# EAGLE library part EFM32LG380F64 (library EnergyMicro)
EFM32LG380F64 Leopard Microcontroller in 14mm x 14mm QFP100 package
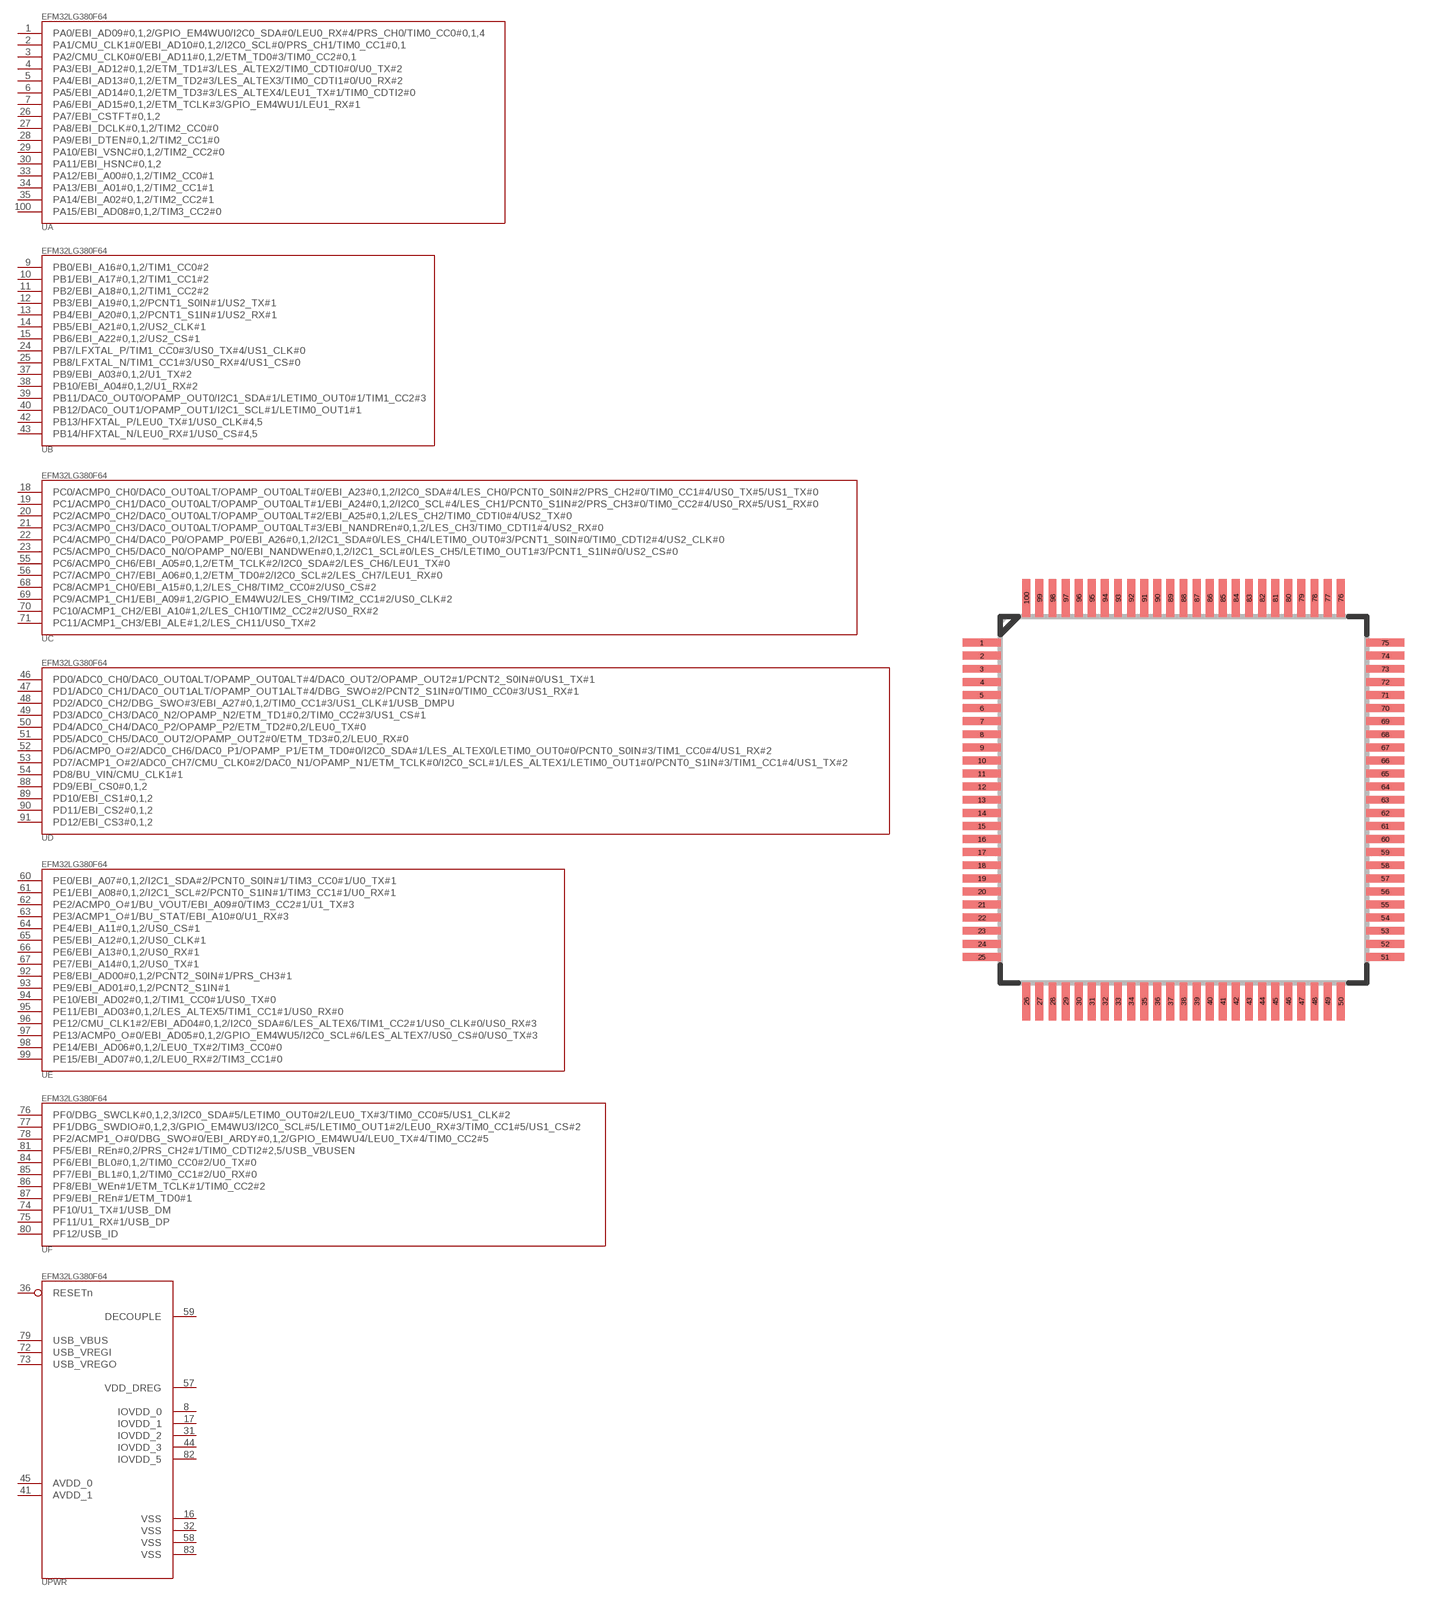
[diagram p86: symbol with the pads of QFP100; footprint QFP100]

Designator prefix -; gates A=EFM32LG380F64_A B=EFM32LG380F64_B C=EFM32LG380F64_C D=EFM32LG380F64_D E=EFM32LG380F64_E F=EFM32LG380F64_F PWR=EFM32LG380F64_PWR

## EFM32LG380F64  [QFP100]
1  A:PA0/EBI_AD09#0,1,2/GPIO_EM4WU0/I2C0_SDA#0/LEU0_RX#4/PRS_CH0/TIM0_CC0#0,1,4
2  A:PA1/CMU_CLK1#0/EBI_AD10#0,1,2/I2C0_SCL#0/PRS_CH1/TIM0_CC1#0,1
3  A:PA2/CMU_CLK0#0/EBI_AD11#0,1,2/ETM_TD0#3/TIM0_CC2#0,1
4  A:PA3/EBI_AD12#0,1,2/ETM_TD1#3/LES_ALTEX2/TIM0_CDTI0#0/U0_TX#2
5  A:PA4/EBI_AD13#0,1,2/ETM_TD2#3/LES_ALTEX3/TIM0_CDTI1#0/U0_RX#2
6  A:PA5/EBI_AD14#0,1,2/ETM_TD3#3/LES_ALTEX4/LEU1_TX#1/TIM0_CDTI2#0
7  A:PA6/EBI_AD15#0,1,2/ETM_TCLK#3/GPIO_EM4WU1/LEU1_RX#1
8  PWR:IOVDD_0  pwr
9  B:PB0/EBI_A16#0,1,2/TIM1_CC0#2
10  B:PB1/EBI_A17#0,1,2/TIM1_CC1#2
11  B:PB2/EBI_A18#0,1,2/TIM1_CC2#2
12  B:PB3/EBI_A19#0,1,2/PCNT1_S0IN#1/US2_TX#1
13  B:PB4/EBI_A20#0,1,2/PCNT1_S1IN#1/US2_RX#1
14  B:PB5/EBI_A21#0,1,2/US2_CLK#1
15  B:PB6/EBI_A22#0,1,2/US2_CS#1
16  PWR:VSS  pwr
17  PWR:IOVDD_1  pwr
18  C:PC0/ACMP0_CH0/DAC0_OUT0ALT/OPAMP_OUT0ALT#0/EBI_A23#0,1,2/I2C0_SDA#4/LES_CH0/PCNT0_S0IN#2/PRS_CH2#0/TIM0_CC1#4/US0_TX#5/US1_TX#0
19  C:PC1/ACMP0_CH1/DAC0_OUT0ALT/OPAMP_OUT0ALT#1/EBI_A24#0,1,2/I2C0_SCL#4/LES_CH1/PCNT0_S1IN#2/PRS_CH3#0/TIM0_CC2#4/US0_RX#5/US1_RX#0
20  C:PC2/ACMP0_CH2/DAC0_OUT0ALT/OPAMP_OUT0ALT#2/EBI_A25#0,1,2/LES_CH2/TIM0_CDTI0#4/US2_TX#0
21  C:PC3/ACMP0_CH3/DAC0_OUT0ALT/OPAMP_OUT0ALT#3/EBI_NANDREn#0,1,2/LES_CH3/TIM0_CDTI1#4/US2_RX#0
22  C:PC4/ACMP0_CH4/DAC0_P0/OPAMP_P0/EBI_A26#0,1,2/I2C1_SDA#0/LES_CH4/LETIM0_OUT0#3/PCNT1_S0IN#0/TIM0_CDTI2#4/US2_CLK#0
23  C:PC5/ACMP0_CH5/DAC0_N0/OPAMP_N0/EBI_NANDWEn#0,1,2/I2C1_SCL#0/LES_CH5/LETIM0_OUT1#3/PCNT1_S1IN#0/US2_CS#0
24  B:PB7/LFXTAL_P/TIM1_CC0#3/US0_TX#4/US1_CLK#0
25  B:PB8/LFXTAL_N/TIM1_CC1#3/US0_RX#4/US1_CS#0
26  A:PA7/EBI_CSTFT#0,1,2
27  A:PA8/EBI_DCLK#0,1,2/TIM2_CC0#0
28  A:PA9/EBI_DTEN#0,1,2/TIM2_CC1#0
29  A:PA10/EBI_VSNC#0,1,2/TIM2_CC2#0
30  A:PA11/EBI_HSNC#0,1,2
31  PWR:IOVDD_2  pwr
32  PWR:VSS  pwr
33  A:PA12/EBI_A00#0,1,2/TIM2_CC0#1
34  A:PA13/EBI_A01#0,1,2/TIM2_CC1#1
35  A:PA14/EBI_A02#0,1,2/TIM2_CC2#1
36  PWR:RESETn  pas
37  B:PB9/EBI_A03#0,1,2/U1_TX#2
38  B:PB10/EBI_A04#0,1,2/U1_RX#2
39  B:PB11/DAC0_OUT0/OPAMP_OUT0/I2C1_SDA#1/LETIM0_OUT0#1/TIM1_CC2#3
40  B:PB12/DAC0_OUT1/OPAMP_OUT1/I2C1_SCL#1/LETIM0_OUT1#1
41  PWR:AVDD_1  pwr
42  B:PB13/HFXTAL_P/LEU0_TX#1/US0_CLK#4,5
43  B:PB14/HFXTAL_N/LEU0_RX#1/US0_CS#4,5
44  PWR:IOVDD_3  pwr
45  PWR:AVDD_0  pwr
46  D:PD0/ADC0_CH0/DAC0_OUT0ALT/OPAMP_OUT0ALT#4/DAC0_OUT2/OPAMP_OUT2#1/PCNT2_S0IN#0/US1_TX#1
47  D:PD1/ADC0_CH1/DAC0_OUT1ALT/OPAMP_OUT1ALT#4/DBG_SWO#2/PCNT2_S1IN#0/TIM0_CC0#3/US1_RX#1
48  D:PD2/ADC0_CH2/DBG_SWO#3/EBI_A27#0,1,2/TIM0_CC1#3/US1_CLK#1/USB_DMPU
49  D:PD3/ADC0_CH3/DAC0_N2/OPAMP_N2/ETM_TD1#0,2/TIM0_CC2#3/US1_CS#1
50  D:PD4/ADC0_CH4/DAC0_P2/OPAMP_P2/ETM_TD2#0,2/LEU0_TX#0
51  D:PD5/ADC0_CH5/DAC0_OUT2/OPAMP_OUT2#0/ETM_TD3#0,2/LEU0_RX#0
52  D:PD6/ACMP0_O#2/ADC0_CH6/DAC0_P1/OPAMP_P1/ETM_TD0#0/I2C0_SDA#1/LES_ALTEX0/LETIM0_OUT0#0/PCNT0_S0IN#3/TIM1_CC0#4/US1_RX#2
53  D:PD7/ACMP1_O#2/ADC0_CH7/CMU_CLK0#2/DAC0_N1/OPAMP_N1/ETM_TCLK#0/I2C0_SCL#1/LES_ALTEX1/LETIM0_OUT1#0/PCNT0_S1IN#3/TIM1_CC1#4/US1_TX#2
54  D:PD8/BU_VIN/CMU_CLK1#1
55  C:PC6/ACMP0_CH6/EBI_A05#0,1,2/ETM_TCLK#2/I2C0_SDA#2/LES_CH6/LEU1_TX#0
56  C:PC7/ACMP0_CH7/EBI_A06#0,1,2/ETM_TD0#2/I2C0_SCL#2/LES_CH7/LEU1_RX#0
57  PWR:VDD_DREG  pwr
58  PWR:VSS  pwr
59  PWR:DECOUPLE  pwr
60  E:PE0/EBI_A07#0,1,2/I2C1_SDA#2/PCNT0_S0IN#1/TIM3_CC0#1/U0_TX#1
61  E:PE1/EBI_A08#0,1,2/I2C1_SCL#2/PCNT0_S1IN#1/TIM3_CC1#1/U0_RX#1
62  E:PE2/ACMP0_O#1/BU_VOUT/EBI_A09#0/TIM3_CC2#1/U1_TX#3
63  E:PE3/ACMP1_O#1/BU_STAT/EBI_A10#0/U1_RX#3
64  E:PE4/EBI_A11#0,1,2/US0_CS#1
65  E:PE5/EBI_A12#0,1,2/US0_CLK#1
66  E:PE6/EBI_A13#0,1,2/US0_RX#1
67  E:PE7/EBI_A14#0,1,2/US0_TX#1
68  C:PC8/ACMP1_CH0/EBI_A15#0,1,2/LES_CH8/TIM2_CC0#2/US0_CS#2
69  C:PC9/ACMP1_CH1/EBI_A09#1,2/GPIO_EM4WU2/LES_CH9/TIM2_CC1#2/US0_CLK#2
70  C:PC10/ACMP1_CH2/EBI_A10#1,2/LES_CH10/TIM2_CC2#2/US0_RX#2
71  C:PC11/ACMP1_CH3/EBI_ALE#1,2/LES_CH11/US0_TX#2
72  PWR:USB_VREGI  pwr
73  PWR:USB_VREGO  pwr
74  F:PF10/U1_TX#1/USB_DM
75  F:PF11/U1_RX#1/USB_DP
76  F:PF0/DBG_SWCLK#0,1,2,3/I2C0_SDA#5/LETIM0_OUT0#2/LEU0_TX#3/TIM0_CC0#5/US1_CLK#2
77  F:PF1/DBG_SWDIO#0,1,2,3/GPIO_EM4WU3/I2C0_SCL#5/LETIM0_OUT1#2/LEU0_RX#3/TIM0_CC1#5/US1_CS#2
78  F:PF2/ACMP1_O#0/DBG_SWO#0/EBI_ARDY#0,1,2/GPIO_EM4WU4/LEU0_TX#4/TIM0_CC2#5
79  PWR:USB_VBUS  pwr
80  F:PF12/USB_ID
81  F:PF5/EBI_REn#0,2/PRS_CH2#1/TIM0_CDTI2#2,5/USB_VBUSEN
82  PWR:IOVDD_5  pwr
83  PWR:VSS  pwr
84  F:PF6/EBI_BL0#0,1,2/TIM0_CC0#2/U0_TX#0
85  F:PF7/EBI_BL1#0,1,2/TIM0_CC1#2/U0_RX#0
86  F:PF8/EBI_WEn#1/ETM_TCLK#1/TIM0_CC2#2
87  F:PF9/EBI_REn#1/ETM_TD0#1
88  D:PD9/EBI_CS0#0,1,2
89  D:PD10/EBI_CS1#0,1,2
90  D:PD11/EBI_CS2#0,1,2
91  D:PD12/EBI_CS3#0,1,2
92  E:PE8/EBI_AD00#0,1,2/PCNT2_S0IN#1/PRS_CH3#1
93  E:PE9/EBI_AD01#0,1,2/PCNT2_S1IN#1
94  E:PE10/EBI_AD02#0,1,2/TIM1_CC0#1/US0_TX#0
95  E:PE11/EBI_AD03#0,1,2/LES_ALTEX5/TIM1_CC1#1/US0_RX#0
96  E:PE12/CMU_CLK1#2/EBI_AD04#0,1,2/I2C0_SDA#6/LES_ALTEX6/TIM1_CC2#1/US0_CLK#0/US0_RX#3
97  E:PE13/ACMP0_O#0/EBI_AD05#0,1,2/GPIO_EM4WU5/I2C0_SCL#6/LES_ALTEX7/US0_CS#0/US0_TX#3
98  E:PE14/EBI_AD06#0,1,2/LEU0_TX#2/TIM3_CC0#0
99  E:PE15/EBI_AD07#0,1,2/LEU0_RX#2/TIM3_CC1#0
100  A:PA15/EBI_AD08#0,1,2/TIM3_CC2#0

## Footprint QFP100 (pad centres in mm)
smd 1.45 x 0.3: 1 -7.7,6; 2 -7.7,5.5; 3 -7.7,5; 4 -7.7,4.5; 5 -7.7,4; 6 -7.7,3.5; 7 -7.7,3; 8 -7.7,2.5; 9 -7.7,2; 10 -7.7,1.5; 11 -7.7,1; 12 -7.7,0.5; 13 -7.7,0; 14 -7.7,-0.5; 15 -7.7,-1; 16 -7.7,-1.5; 17 -7.7,-2; 18 -7.7,-2.5; 19 -7.7,-3; 20 -7.7,-3.5; 21 -7.7,-4; 22 -7.7,-4.5; 23 -7.7,-5; 24 -7.7,-5.5; 25 -7.7,-6; 51 7.7,-6; 52 7.7,-5.5; 53 7.7,-5; 54 7.7,-4.5; 55 7.7,-4; 56 7.7,-3.5; 57 7.7,-3; 58 7.7,-2.5; 59 7.7,-2; 60 7.7,-1.5; 61 7.7,-1; 62 7.7,-0.5; 63 7.7,0; 64 7.7,0.5; 65 7.7,1; 66 7.7,1.5; 67 7.7,2; 68 7.7,2.5; 69 7.7,3; 70 7.7,3.5; 71 7.7,4; 72 7.7,4.5; 73 7.7,5; 74 7.7,5.5; 75 7.7,6
smd 0.3 x 1.45: 26 -6,-7.7; 27 -5.5,-7.7; 28 -5,-7.7; 29 -4.5,-7.7; 30 -4,-7.7; 31 -3.5,-7.7; 32 -3,-7.7; 33 -2.5,-7.7; 34 -2,-7.7; 35 -1.5,-7.7; 36 -1,-7.7; 37 -0.5,-7.7; 38 0,-7.7; 39 0.5,-7.7; 40 1,-7.7; 41 1.5,-7.7; 42 2,-7.7; 43 2.5,-7.7; 44 3,-7.7; 45 3.5,-7.7; 46 4,-7.7; 47 4.5,-7.7; 48 5,-7.7; 49 5.5,-7.7; 50 6,-7.7; 76 6,7.7; 77 5.5,7.7; 78 5,7.7; 79 4.5,7.7; 80 4,7.7; 81 3.5,7.7; 82 3,7.7; 83 2.5,7.7; 84 2,7.7; 85 1.5,7.7; 86 1,7.7; 87 0.5,7.7; 88 0,7.7; 89 -0.5,7.7; 90 -1,7.7; 91 -1.5,7.7; 92 -2,7.7; 93 -2.5,7.7; 94 -3,7.7; 95 -3.5,7.7; 96 -4,7.7; 97 -4.5,7.7; 98 -5,7.7; 99 -5.5,7.7; 100 -6,7.7